# Altium schematic symbol library biblioteca_acionador.SchLib: 19 symbols
Pins are listed as number, name and electrical type; pins without a type are passive.

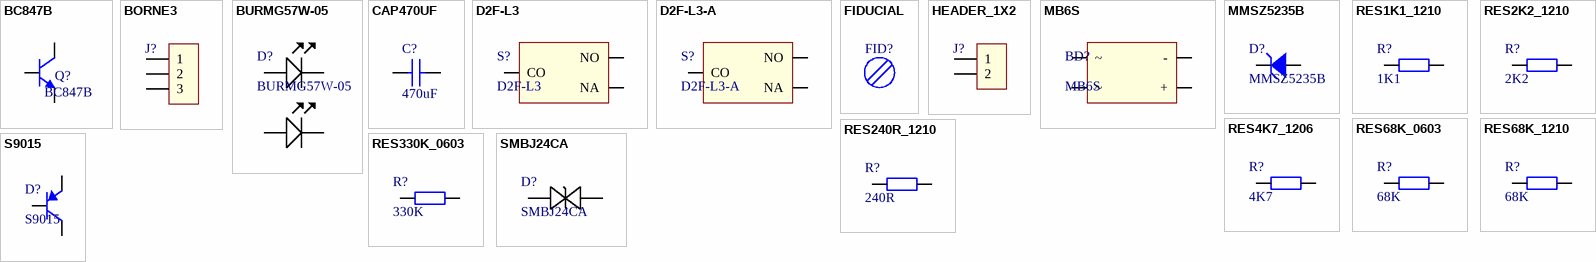
[diagram p0: symbols BC847B to SMBJ24CA]

## BC847B
designator Q?
TRANSISTOR BC847B SOT-23-3 SMD
footprint SOT-23
pins: 1 10, 2 E, 3 C

## BORNE3
designator J?, comment BORNE  (value not drawn)
BORNE 3 VIAS
footprint BORNE3 (Footprint not found)
footprint BORNE3_MIL
pins: 1, 2, 3

## BURMG57W-05
designator D?
LED BURMG57W-05
footprint BURMG57W
pins: 1, 2, 3, 4

## CAP470UF
designator C?, comment 470uF
CAPACITOR ELETROLITICO 470UF 10V SMD
footprint CAP-SMD_BD10.0-L10.3-W10.3-LS11.3-FD
pins: 1, 2

## D2F-L3
designator S?
CHAVE INTERRUPTOR D2F-L3
footprint D2F-L3
pins: 1 CO, 2 NO, 3 NA, 3 NO

## D2F-L3-A
designator S?
CHAVE INTERRUPTOR D2F-L3-A
footprint D2F-L3-A
pins: 1 CO, 2 NO, 3 NA, 3 NO

## FIDUCIAL
designator FID?, comment MEC_FIDUCIAL_1  (value not drawn)
Código Rossi: NC
footprint Fiducial_1 (Ponto Fiducuial)

## HEADER_1X2
designator J?, comment JUMPER  (value not drawn)
BARRA PINOS 2 PINOS 180 P-2.5MM / CAPA MINI JUMPER MKBL 020B; Code: 554 / 515; Descrição: BARRA PINOS 2 PINOS 180 P-2.5MM / CAPA MINI JUMPER MKBL 020B
footprint HEADER1X2
pins: 1, 2

## MB6S
designator BD?
PONTE RETIFICADORA MB6S
footprint DIO-BG-SMD_4P-L4.7-W4.0-P2.50-LS7.0-TL
pins: 1 +, 2 NO, 2 -, 3 ~, 4 ~

## MMSZ5235B
designator D?
DIODO ZENER MMSZ5235B
footprint SOD-123-2
pins: 1 K, 2 A

## RES1K1_1210
designator R?, comment 1K1
RESISTOR 1K1 1210 5%
footprint 1210-RES
pins: 1, 2

## RES2K2_1210
designator R?, comment 2K2
RESISTOR 2K2 1210 5%
footprint 1210-RES
pins: 1, 2

## RES4K7_1206
designator R?, comment 4K7
RESISTOR 4K7 1206 5%
footprint 1206-RES
pins: 1, 2

## RES68K_0603
designator R?, comment 68K
RESISTOR 68K 0603 5%
footprint 0603-RES
pins: 1, 2

## RES68K_1210
designator R?, comment 68K
RESISTOR 68K 1210 5%
footprint 1210-RES
pins: 1, 2

## RES240R_1210
designator R?, comment 240R
RESISTOR 240R 1210 5%
footprint 1210-RES
pins: 1, 2

## RES330K_0603
designator R?, comment 330K
RESISTOR 330K 0603 5%
footprint 0603-RES
pins: 1, 2

## S9015
designator D?
TRANSISTOR PNP S9015 SOT23-3 SMD
footprint SOT-23
pins: 1 10, 2 E, 3 C

## SMBJ24CA
designator D?
footprint SMBJ50CA
pins: 1, 2